# Altium footprint library Texas_Instruments.PcbLib: 55 footprints (part 3 of 4)
Each footprint in its own frame and in the unit in brackets; x right, y up, seen from the top. Pads: shape width x height; smd on the part's side, far side on the other; paste and mask are expansions set on the pad; w line width, h text height; cw(c..) or ccw(c..) is an arc to the next point about the centre after c.
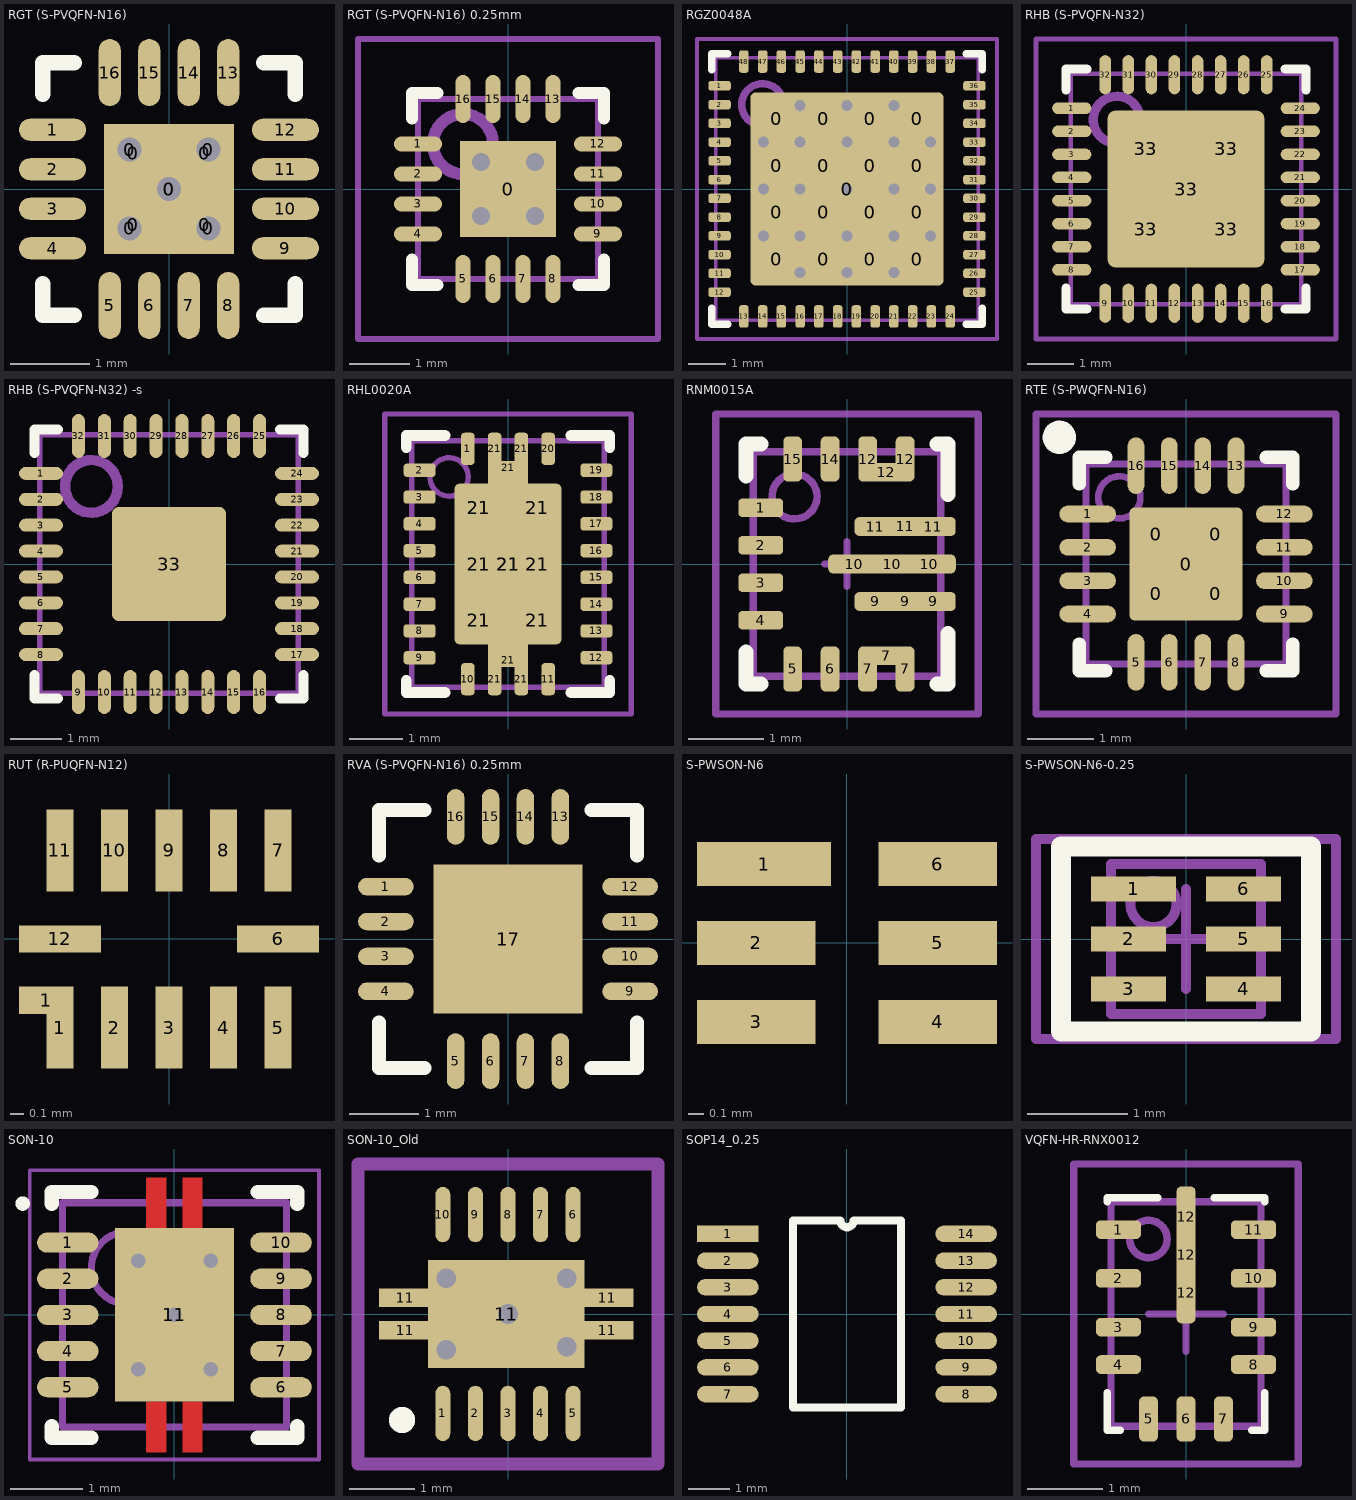
[diagram p2: the footprints below, top view; thin cyan lines are the x and y axes]

## RGT (S-PVQFN-N16) [mm]
pads (26):
  rect 0.65x0.65 hole 0.3: 0(-0.5,-0.5) 0(-0.5,0.5) 0(0,0) 0(0.5,-0.5) 0(0.5,0.5)
  rect 0.7x0.7 smd: 0(-0.45,-0.45) 0(-0.45,0.45) 0(0.45,-0.45) 0(0.45,0.45)
  rect 1.65x1.65 smd paste-1.65: 0(0,0)
  oval 0.85x0.28 smd: 1(-1.475,0.75) 2(-1.475,0.25) 3(-1.475,-0.25) 4(-1.475,-0.75) 9(1.475,-0.75) 10(1.475,-0.25) 11(1.475,0.25) 12(1.475,0.75)
  oval 0.28x0.85 smd: 5(-0.75,-1.475) 6(-0.25,-1.475) 7(0.25,-1.475) 8(0.75,-1.475) 13(0.75,1.475) 14(0.25,1.475) 15(-0.25,1.475) 16(-0.75,1.475)
Top Overlay:
  lines w0.2: -1.6,-1.2 -1.6,-1.6 -1.2,-1.6 ; -1.6,1.2 -1.6,1.6 -1.2,1.6 ; 1.2,-1.6 1.6,-1.6 1.6,-1.2 ; 1.2,1.6 1.6,1.6 1.6,1.2
3D body: height 1, standoff 0, extent -1.5,-1.5 1.5,1.5

## RGT (S-PVQFN-N16) 0.25mm [mm]
pads (17):
  rect 1.6x1.6 smd paste-0.1: 0(0,0)
  oval 0.8x0.25 smd: 1(-1.5,0.75) 2(-1.5,0.25) 3(-1.5,-0.25) 4(-1.5,-0.75) 9(1.5,-0.75) 10(1.5,-0.25) 11(1.5,0.25) 12(1.5,0.75)
  oval 0.25x0.8 smd: 5(-0.75,-1.5) 6(-0.25,-1.5) 7(0.25,-1.5) 8(0.75,-1.5) 13(0.75,1.5) 14(0.25,1.5) 15(-0.25,1.5) 16(-0.75,1.5)
via -0.45,-0.45 diameter 0.7 hole 0.3
via 0.45,-0.45 diameter 0.7 hole 0.3
via 0.45,0.45 diameter 0.7 hole 0.3
via -0.45,0.45 diameter 0.7 hole 0.3
Top Overlay:
  lines w0.2: -1.6,-1.175 -1.6,-1.6 -1.175,-1.6 ; -1.6,1.175 -1.6,1.6 -1.175,1.6 ; 1.175,-1.6 1.6,-1.6 1.6,-1.175 ; 1.175,1.6 1.6,1.6 1.6,1.175
Mechanical 13:
  circle w0.2: c-0.75,0.75 r0.5
  lines w0.1: -1.5,-1.5 1.5,-1.5 1.5,1.5 -1.5,1.5 -1.5,-1.5
Mechanical 15:
  lines w0.1: -0.5,0 0.5,0 ; 0,-0.5 0,0.5 ; -2.5,-2.5 2.5,-2.5 2.5,2.5 -2.5,2.5 -2.5,-2.5
3D body: height 1, standoff 0, extent -1.5,-1.5 1.5,1.5

## RGZ0048A [mm] "RGZ VQFN 48-pin"
height 1
pads (65):
  rrect20% 1.05x1.05 smd: 0(-1.875,-1.875) 0(-1.875,-0.625) 0(-1.875,0.625) 0(-1.875,1.875) 0(-0.625,-1.875) 0(-0.625,-0.625) 0(-0.625,0.625) 0(-0.625,1.875) 0(0.625,-1.875) 0(0.625,-0.625) 0(0.625,0.625) 0(0.625,1.875) 0(1.875,-1.875) 0(1.875,-0.625) 0(1.875,0.625) 0(1.875,1.875)
  rrect5% 5.15x5.15 smd paste-5: 0(0,0)
  rrect50% 0.6x0.25 smd: 1(-3.4,2.75) 2(-3.4,2.25) 3(-3.4,1.75) 4(-3.4,1.25) 5(-3.4,0.75) 6(-3.4,0.25) 7(-3.4,-0.25) 8(-3.4,-0.75) 9(-3.4,-1.25) 10(-3.4,-1.75) 11(-3.4,-2.25) 12(-3.4,-2.75) 25(3.4,-2.75) 26(3.4,-2.25) 27(3.4,-1.75) 28(3.4,-1.25) 29(3.4,-0.75) 30(3.4,-0.25) 31(3.4,0.25) 32(3.4,0.75) 33(3.4,1.25) 34(3.4,1.75) 35(3.4,2.25) 36(3.4,2.75)
  rrect50% 0.25x0.6 smd: 13(-2.75,-3.4) 14(-2.25,-3.4) 15(-1.75,-3.4) 16(-1.25,-3.4) 17(-0.75,-3.4) 18(-0.25,-3.4) 19(0.25,-3.4) 20(0.75,-3.4) 21(1.25,-3.4) 22(1.75,-3.4) 23(2.25,-3.4) 24(2.75,-3.4) 37(2.75,3.4) 38(2.25,3.4) 39(1.75,3.4) 40(1.25,3.4) 41(0.75,3.4) 42(0.25,3.4) 43(-0.25,3.4) 44(-0.75,3.4) 45(-1.25,3.4) 46(-1.75,3.4) 47(-2.25,3.4) 48(-2.75,3.4)
via 0,0 diameter 0.7 hole 0.3
via -1.25,1.25 diameter 0.7 hole 0.3
via 0,1.25 diameter 0.7 hole 0.3
via 1.25,1.25 diameter 0.7 hole 0.3
via 1.25,0 diameter 0.7 hole 0.3
via -1.25,0 diameter 0.7 hole 0.3
via -1.25,-1.25 diameter 0.7 hole 0.3
via 0,-1.25 diameter 0.7 hole 0.3
via 1.25,-1.25 diameter 0.7 hole 0.3
via 2.225,-1.25 diameter 0.7 hole 0.3
via 2.225,0 diameter 0.7 hole 0.3
via 2.225,1.25 diameter 0.7 hole 0.3
via -2.225,1.25 diameter 0.7 hole 0.3
via -2.225,0 diameter 0.7 hole 0.3
via -2.225,-1.25 diameter 0.7 hole 0.3
via 0,-2.225 diameter 0.7 hole 0.3
via 1.25,-2.225 diameter 0.7 hole 0.3
via -1.25,-2.225 diameter 0.7 hole 0.3
via 0,2.225 diameter 0.7 hole 0.3
via -1.25,2.225 diameter 0.7 hole 0.3
via 1.25,2.225 diameter 0.7 hole 0.3
Top Overlay:
  lines w0.2: -3.6,-3.175 -3.6,-3.6 -3.175,-3.6 ; -3.6,3.175 -3.6,3.6 -3.175,3.6 ; 3.175,-3.6 3.6,-3.6 3.6,-3.175 ; 3.175,3.6 3.6,3.6 3.6,3.175
Mechanical 13:
  circle w0.2: c-2.25,2.25 r0.559
  lines w0.1: -3.5,-3.5 -3.5,3.5 3.5,3.5 3.5,-3.5 -3.5,-3.5
Mechanical 15:
  lines w0.1: -0.25,0 0.25,0 ; 0,-0.25 0,0.25 ; -4,-4 -4,4 4,4 4,-4 -4,-4
3D body: height 1.05, standoff 0, extent -3.5,-3.5 3.5,3.5

## RHB (S-PVQFN-N32) [mm] "Normal size"
height 1
pads (37):
  oval 0.85x0.25 smd: 1(-2.475,1.75) 2(-2.475,1.25) 3(-2.475,0.75) 4(-2.475,0.25) 5(-2.475,-0.25) 6(-2.475,-0.75) 7(-2.475,-1.25) 8(-2.475,-1.75) 17(2.475,-1.75) 18(2.475,-1.25) 19(2.475,-0.75) 20(2.475,-0.25) 21(2.475,0.25) 22(2.475,0.75) 23(2.475,1.25) 24(2.475,1.75)
  oval 0.25x0.85 smd: 9(-1.75,-2.475) 10(-1.25,-2.475) 11(-0.75,-2.475) 12(-0.25,-2.475) 13(0.25,-2.475) 14(0.75,-2.475) 15(1.25,-2.475) 16(1.75,-2.475) 25(1.75,2.475) 26(1.25,2.475) 27(0.75,2.475) 28(0.25,2.475) 29(-0.25,2.475) 30(-0.75,2.475) 31(-1.25,2.475) 32(-1.75,2.475)
  rrect20% 1.45x1.45 smd: 33(-0.875,0.875) 33(-0.875,-0.875) 33(0.875,-0.875) 33(0.875,0.875)
  rrect10% 3.4x3.4 smd paste-4: 33(0,0)
Top Overlay:
  lines w0.2: -2.6,-2.15 -2.6,-2.6 -2.15,-2.6 ; -2.6,2.15 -2.6,2.6 -2.15,2.6 ; 2.15,-2.6 2.6,-2.6 2.6,-2.15 ; 2.15,2.6 2.6,2.6 2.6,2.15
Mechanical 13:
  circle w0.2: c-1.5,1.5 r0.51
  lines w0.1: -2.5,-2.5 2.5,-2.5 2.5,2.5 -2.5,2.5 -2.5,-2.5
Mechanical 15:
  lines w0.1: -0.25,0 0.25,0 ; 0,-0.25 0,0.25 ; -3.25,-3.25 3.25,-3.25 3.25,3.25 -3.25,3.25 -3.25,-3.25
3D body: height 1, standoff 0, extent -2.5,-2.5 2.5,2.5
3D body: height 1.1, standoff 0, extent -1.898,1.3 -1.301,1.899

## RHB (S-PVQFN-N32) -s [mm] "-small central pad"
pads (33):
  oval 0.85x0.25 smd: 1(-2.475,1.75) 2(-2.475,1.25) 3(-2.475,0.75) 4(-2.475,0.25) 5(-2.475,-0.25) 6(-2.475,-0.75) 7(-2.475,-1.25) 8(-2.475,-1.75) 17(2.475,-1.75) 18(2.475,-1.25) 19(2.475,-0.75) 20(2.475,-0.25) 21(2.475,0.25) 22(2.475,0.75) 23(2.475,1.25) 24(2.475,1.75)
  oval 0.25x0.85 smd: 9(-1.75,-2.475) 10(-1.25,-2.475) 11(-0.75,-2.475) 12(-0.25,-2.475) 13(0.25,-2.475) 14(0.75,-2.475) 15(1.25,-2.475) 16(1.75,-2.475) 25(1.75,2.475) 26(1.25,2.475) 27(0.75,2.475) 28(0.25,2.475) 29(-0.25,2.475) 30(-0.75,2.475) 31(-1.25,2.475) 32(-1.75,2.475)
  rrect10% 2.2x2.2 smd paste-4: 33(0,0)
Top Overlay:
  lines w0.2: -2.6,-2.15 -2.6,-2.6 -2.15,-2.6 ; -2.6,2.15 -2.6,2.6 -2.15,2.6 ; 2.15,-2.6 2.6,-2.6 2.6,-2.15 ; 2.15,2.6 2.6,2.6 2.6,2.15
Mechanical 13:
  circle w0.2: c-1.5,1.5 r0.51
  lines w0.1: -2.5,-2.5 -2.5,2.5 2.5,2.5 2.5,-2.5 -2.5,-2.5
3D body: height 1, standoff 0, extent -2.5,-2.5 2.5,2.5

## RHL0020A [mm]
pads (34):
  rrect50% 0.25x0.6 smd: 1(-0.75,2.15) 10(-0.75,-2.15) 11(0.75,-2.15) 20(0.75,2.15) 21(-0.25,-2.15) 21(-0.25,2.15) 21(0.25,-2.15) 21(0.25,2.15)
  rrect50% 0.6x0.25 smd: 2(-1.65,1.75) 3(-1.65,1.25) 4(-1.65,0.75) 5(-1.65,0.25) 6(-1.65,-0.25) 7(-1.65,-0.75) 8(-1.65,-1.25) 9(-1.65,-1.75) 12(1.65,-1.75) 13(1.65,-1.25) 14(1.65,-0.75) 15(1.65,-0.25) 16(1.65,0.25) 17(1.65,0.75) 18(1.65,1.25) 19(1.65,1.75)
  rrect20% 0.9x0.85 smd: 21(-0.55,-1.05) 21(-0.55,0) 21(-0.55,1.05) 21(0.55,-1.05) 21(0.55,0) 21(0.55,1.05)
  rrect50% 0.75x0.25 smd: 21(0,-1.8) 21(0,1.8)
  rrect10% 2x3 smd paste-2: 21(0,0)
  rect 0.75x3.85 smd paste-4: 21(0,0)
Top Overlay:
  lines w0.2: -1.9,-2.175 -1.9,-2.4 -1.175,-2.4 ; -1.9,2.175 -1.9,2.4 -1.175,2.4 ; 1.175,-2.4 1.9,-2.4 1.9,-2.175 ; 1.175,2.4 1.9,2.4 1.9,2.175
Mechanical 13:
  circle w0.1: c-1.1,1.625 r0.358
  lines w0.1: -1.8,-2.3 -1.8,2.3 1.8,2.3 1.8,-2.3 -1.8,-2.3
Mechanical 15:
  lines w0.1: -0.5,0 0.5,0 ; 0,-0.5 0,0.5 ; -2.3,-2.8 -2.3,2.8 2.3,2.8 2.3,-2.8 -2.3,-2.8
3D body: height 1, standoff 0, extent -1.8,-2.3 1.8,2.3

## RNM0015A [mm] "VQFN 2.5x3mm"
height 0.9
pads (23):
  rrect50% 0.6x0.25 smd: 1(-1.15,0.75) 2(-1.15,0.25) 3(-1.15,-0.25) 4(-1.15,-0.75) 7(0.525,-1.225) 9(1.15,-0.5) 11(1.15,0.5) 12(0.525,1.225)
  rrect50% 0.25x0.6 smd: 5(-0.725,-1.4) 6(-0.225,-1.4) 7(0.275,-1.4) 7(0.775,-1.4) 12(0.275,1.4) 12(0.775,1.4) 14(-0.225,1.4) 15(-0.725,1.4)
  rrect50% 0.55x0.25 smd: 9(0.375,-0.5) 11(0.375,0.5)
  rrect50% 1.35x0.25 smd paste-2: 9(0.775,-0.5) 11(0.775,0.5)
  rrect50% 0.7x0.25 smd: 10(0.1,0) 10(1.1,0)
  rrect50% 1.7x0.25 smd paste-2: 10(0.6,0)
Top Overlay:
  lines w0.2: -1.35,-1.175 -1.35,-1.6 -1.15,-1.6 ; -1.35,1.175 -1.35,1.6 -1.15,1.6 ; 1.2,-1.6 1.35,-1.6 1.35,-0.925 ; 1.2,1.6 1.35,1.6 1.35,0.925
Mechanical 13:
  circle w0.1: c-0.7,0.9 r0.3
  lines w0.1: -1.25,-1.5 1.25,-1.5 1.25,1.5 -1.25,1.5 -1.25,-1.5
Mechanical 15:
  lines w0.1: -0.3,0 0.3,0 ; 0,-0.3 0,0.3 ; -1.75,-2 -1.75,2 1.75,2 1.75,-2 -1.75,-2
3D body: height 0.9, standoff 0, extent -1.25,-1.5 1.25,1.5

## RTE (S-PWQFN-N16) [mm]
pads (21):
  rrect10% 0.7x0.7 smd: 0(-0.45,-0.45) 0(-0.45,0.45) 0(0.45,-0.45) 0(0.45,0.45)
  rrect10% 1.7x1.7 smd paste-2: 0(0,0)
  oval 0.85x0.25 smd: 1(-1.475,0.75) 2(-1.475,0.25) 3(-1.475,-0.25) 4(-1.475,-0.75) 9(1.475,-0.75) 10(1.475,-0.25) 11(1.475,0.25) 12(1.475,0.75)
  oval 0.25x0.85 smd: 5(-0.75,-1.475) 6(-0.25,-1.475) 7(0.25,-1.475) 8(0.75,-1.475) 13(0.75,1.475) 14(0.25,1.475) 15(-0.25,1.475) 16(-0.75,1.475)
Top Overlay:
  circle w0.3: c-1.9,1.9 r0.1
  lines w0.2: -1.6,-1.2 -1.6,-1.6 -1.2,-1.6 ; -1.6,1.2 -1.6,1.6 -1.2,1.6 ; 1.2,-1.6 1.6,-1.6 1.6,-1.2 ; 1.2,1.6 1.6,1.6 1.6,1.2
Mechanical 13:
  circle w0.1: c-1,1 r0.316
  lines w0.1: -1.5,-1.5 1.5,-1.5 1.5,1.5 -1.5,1.5 -1.5,-1.5
Mechanical 15:
  lines w0.1: -0.5,0 0.5,0 ; 0,-0.5 0,0.5 ; -2.25,-2.25 2.25,-2.25 2.25,2.25 -2.25,2.25 -2.25,-2.25
3D body: height 0.8, standoff 0, extent -1.5,-1.5 1.5,1.5

## RUT (R-PUQFN-N12) [mm]
pads (13):
  rect 0.4x0.2 smd: 1(-0.9,-0.45)
  rect 0.2x0.6 smd: 1(-0.8,-0.65) 2(-0.4,-0.65) 3(0,-0.65) 4(0.4,-0.65) 5(0.8,-0.65) 7(0.8,0.65) 8(0.4,0.65) 9(0,0.65) 10(-0.4,0.65) 11(-0.8,0.65)
  rect 0.6x0.2 smd: 6(0.8,0) 12(-0.8,0)
3D body: height 0.55, standoff 0, extent -1,-0.85 1,0.85

## RVA (S-PVQFN-N16) 0.25mm [mm]
pads (17):
  oval 0.8x0.25 smd: 1(-1.75,0.75) 2(-1.75,0.25) 3(-1.75,-0.25) 4(-1.75,-0.75) 9(1.75,-0.75) 10(1.75,-0.25) 11(1.75,0.25) 12(1.75,0.75)
  oval 0.25x0.8 smd: 5(-0.75,-1.75) 6(-0.25,-1.75) 7(0.25,-1.75) 8(0.75,-1.75) 13(0.75,1.75) 14(0.25,1.75) 15(-0.25,1.75) 16(-0.75,1.75)
  rect 2.14x2.14 smd paste-3: 17(0,0)
Top Overlay:
  lines w0.2: -1.85,-1.2 -1.85,-1.85 -1.2,-1.85 ; -1.85,1.2 -1.85,1.85 -1.2,1.85 ; 1.2,-1.85 1.85,-1.85 1.85,-1.2 ; 1.2,1.85 1.85,1.85 1.85,1.2
Top Paste:
  rectangle: -1,0.15 -0.15,1
  rectangle: -1,-1 -0.15,-0.15
  rectangle: 0.15,0.15 1,1
  rectangle: 0.15,-1 1,-0.15
3D body: height 1, standoff 0, extent -1.75,-1.75 1.75,1.75

## S-PWSON-N6 [mm] "Power SON for TPS727xx"
height 0.75
pads (6):
  rect 0.85x0.28 smd: 1(-0.525,0.5)
  rect 0.75x0.28 smd: 2(-0.575,0) 3(-0.575,-0.5) 4(0.575,-0.5) 5(0.575,0) 6(0.575,0.5)
3D body: height 0.8, standoff 0, extent -0.75,-0.75 0.75,0.75

## S-PWSON-N6-0.25 [mm] "Power SON for TPS727xx"
height 0.75
pads (6):
  rect 0.85x0.25 smd: 1(-0.525,0.5)
  rect 0.75x0.25 smd: 2(-0.575,0) 3(-0.575,-0.5) 4(0.575,-0.5) 5(0.575,0) 6(0.575,0.5)
Top Overlay:
  lines w0.2: -1.25,-0.925 -1.25,0.925 1.25,0.925 1.25,-0.925 -1.25,-0.925
Mechanical 13:
  circle w0.1: c-0.325,0.35 r0.23
  lines w0.1: -0.75,-0.75 -0.75,0.75 0.75,0.75 0.75,-0.75 -0.75,-0.75
Mechanical 15:
  lines w0.1: -0.5,0 0.5,0 ; 0,-0.5 0,0.5 ; -1.5,-1 1.5,-1 1.5,1 -1.5,1 -1.5,-1
3D body: height 0.8, standoff 0, extent -0.75,-0.75 0.75,0.75

## SON-10 [mm] "SON, 10-Leads, Body 3x3mm, Pitch 0.5mm, Thermal Pad 2.4x1.65mm, TI Recommended"
height 1
pads (11):
  oval 0.85x0.28 smd paste-0.025 mask+0.07: 1(-1.475,1) 2(-1.475,0.5) 3(-1.475,0) 4(-1.475,-0.5) 5(-1.475,-1) 6(1.475,-1) 7(1.475,-0.5) 8(1.475,0) 9(1.475,0.5) 10(1.475,1)
  rect 1.65x2.4 smd paste-0.825 mask+0.07: 11(0,0)
via 0,0 diameter 0.5 hole 0.2
via 0.5,0.75 diameter 0.5 hole 0.2
via -0.5,0.75 diameter 0.5 hole 0.2
via -0.5,-0.75 diameter 0.5 hole 0.2
via 0.5,-0.75 diameter 0.5 hole 0.2
Top Layer:
  rectangle: -0.39,1.2 -0.11,1.9
  region: 0.39,1.9 0.11,1.9 0.11,1.2 0.39,1.2
  region: 0.39,-1.2 0.11,-1.2 0.11,-1.9 0.39,-1.9
  rectangle: -0.39,-1.9 -0.11,-1.2
Top Overlay:
  circle w0.1: c-2.1,1.54 r0.05
  lines w0.2: -1.7,-1.54 -1.7,-1.7 -1.15,-1.7 ; -1.7,1.54 -1.7,1.7 -1.15,1.7 ; 1.15,-1.7 1.7,-1.7 1.7,-1.54 ; 1.15,1.7 1.7,1.7 1.7,1.54
Top Paste:
  rectangle: -0.7,0.11 -0.11,1
  rectangle: -0.38,1.38 -0.12,1.88
  region: 0.38,1.88 0.12,1.88 0.12,1.38 0.38,1.38
  region: 0.38,-1.38 0.12,-1.38 0.12,-1.88 0.38,-1.88
  rectangle: -0.38,-1.88 -0.12,-1.38
  region: 0.7,1 0.11,1 0.11,0.11 0.7,0.11
  region: 0.7,-0.11 0.11,-0.11 0.11,-1 0.7,-1
  rectangle: -0.7,-1 -0.11,-0.11
Top Solder:
  rectangle: -0.625,-2 0.575,-1.225
  rectangle: -0.6,1.25 0.6,2.025
Mechanical 13:
  circle w0.1: c-0.65,0.65 r0.5
  lines w0.1: -1.55,-1.55 -1.55,1.55 1.55,1.55 1.55,-1.55 -1.55,-1.55
Mechanical 15:
  lines w0.05: -2,-2 -2,2 2,2 2,-2 -2,-2
3D body: height 0.81, standoff 0, extent -1.498,-1.499 1.499,1.499

## SON-10_Old [mm] "SON-10_Old"
pads (15):
  oval 0.23x0.85 smd: 1(-1,-1.525) 2(-0.5,-1.525) 3(0,-1.525) 4(0.5,-1.525) 5(1,-1.525) 6(1,1.525) 7(0.5,1.525) 8(0,1.525) 9(-0.5,1.525) 10(-1,1.525)
  rect 0.8x0.28 smd: 11(-1.575,-0.25) 11(-1.575,0.25) 11(1.525,-0.25) 11(1.525,0.25)
  rect 2.4x1.65 smd: 11(-0.025,0)
via 0,0 diameter 0.5 hole 0.3
via 0.9,0.55 diameter 0.5 hole 0.3
via 0.9,-0.5 diameter 0.5 hole 0.3
via -0.95,0.55 diameter 0.5 hole 0.3
via -0.95,-0.55 diameter 0.5 hole 0.3
Top Overlay:
  circle w0.254: c-1.625,-1.625 r0.075
Top Solder:
  rectangle: -2.1,-0.5 -1.3,0.5
  rectangle: 1.25,-0.525 2.05,0.5
Mechanical 15:
  lines w0.2: -2.3,-2.3 2.3,-2.3 2.3,2.3 -2.3,2.3 -2.3,-2.3
3D body: height 0.89, standoff -0.01, extent -1.5,-1.5 1.5,1.5

## SOP14_0.25 [mm]
pads (14):
  rect 1.5x0.4 smd: 1(-2.9,1.95)
  oval 1.5x0.4 smd: 2(-2.9,1.3) 3(-2.9,0.65) 4(-2.9,0) 5(-2.9,-0.65) 6(-2.9,-1.3) 7(-2.9,-1.95) 8(2.9,-1.95) 9(2.9,-1.3) 10(2.9,-0.65) 11(2.9,0) 12(2.9,0.65) 13(2.9,1.3) 14(2.9,1.95)
Top Overlay:
  lines w0.2: -1.315,-2.275 -1.315,2.275 -0.162,2.275 ccw(c0,2.275) 0.162,2.275 1.315,2.275 1.315,-2.275 -1.315,-2.275
3D body: height 1.1, standoff 0, extent -3.2,-2.5 3.2,2.5

## VQFN-HR-RNX0012 [mm] "VQFN-HR HotRod package"
height 1
pads (14):
  rrect50% 0.6x0.25 smd: 1(-0.9,1.125) 2(-0.9,0.475) 3(-0.9,-0.175) 4(-0.9,-0.675) 8(0.9,-0.675) 9(0.9,-0.175) 10(0.9,0.475) 11(0.9,1.125)
  rrect50% 0.25x0.6 smd: 5(-0.5,-1.4) 6(0,-1.4) 7(0.5,-1.4)
  rrect50% 0.25x0.812 smd: 12(0,0.282) 12(0,1.294)
  rrect50% 0.25x1.825 smd paste-2: 12(0,0.788)
Top Overlay:
  lines w0.1: -1.05,-1.05 -1.05,-1.55 -0.875,-1.55 ; -1.05,1.5 -1.05,1.55 -0.375,1.55 ; 0.375,1.55 1.05,1.55 1.05,1.5 ; 0.875,-1.55 1.05,-1.55 1.05,-1.05
Mechanical 13:
  circle w0.1: c-0.5,1 r0.25
  lines w0.1: -1,-1.5 1,-1.5 1,1.5 -1,1.5 -1,-1.5
Mechanical 15:
  lines w0.1: -0.5,0 0.5,0 ; 0,-0.5 0,0.5 ; -1.5,-2 1.5,-2 1.5,2 -1.5,2 -1.5,-2
3D body: height 1, standoff 0, extent -1,-1.5 1,1.5